# Altium footprint library Sensors_Schem_AP.PcbLib: 10 footprints
Each footprint in its own frame and in the unit in brackets; x right, y up, seen from the top. Pads: shape width x height; smd on the part's side, far side on the other; paste and mask are expansions set on the pad; w line width, h text height; cw(c..) or ccw(c..) is an arc to the next point about the centre after c.
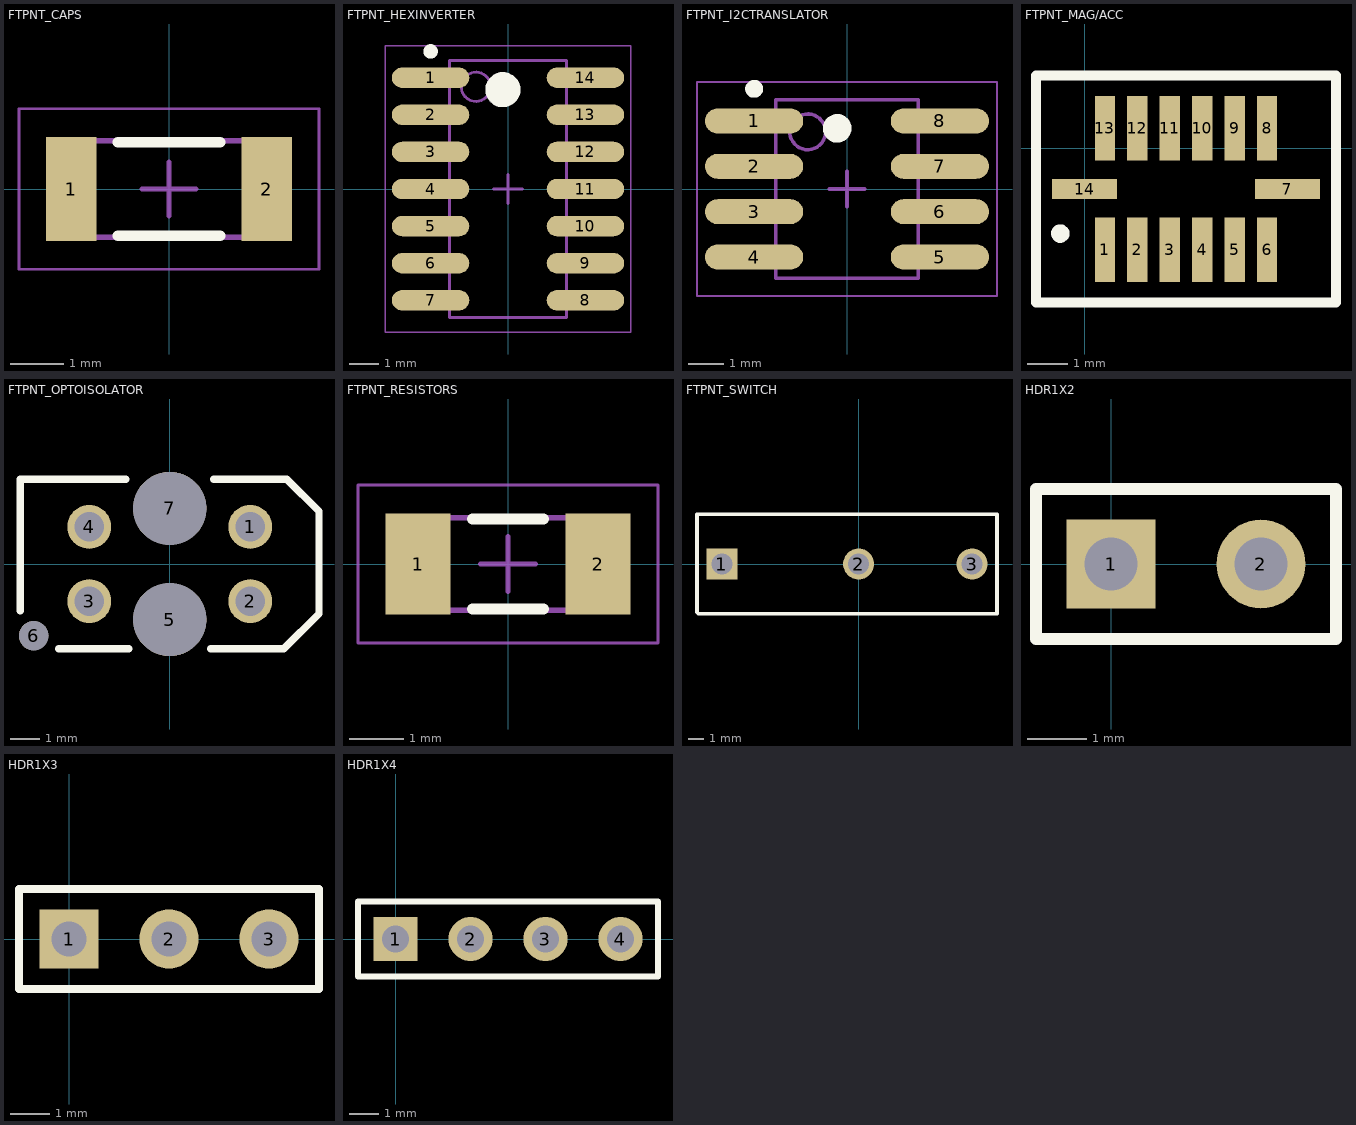
[diagram p0: the footprints below, top view; thin cyan lines are the x and y axes]

## FTPNT_CAPS [mm] "Chip Capacitor, 2-Leads, Body 3.20x1.60mm, IPC Low Density"
height 1.8
pads (2):
  rect 0.95x1.95 smd: 1(-1.825,0) 2(1.825,0)
Top Overlay:
  lines w0.2: -0.95,-0.875 0.95,-0.875 ; -0.95,0.875 0.95,0.875
Mechanical 13:
  lines w0.1: -1.7,-0.9 1.7,-0.9 1.7,0.9 -1.7,0.9 -1.7,-0.9
Mechanical 15:
  lines w0.05: -2.8,-1.5 2.8,-1.5 2.8,1.5 -2.8,1.5 -2.8,-1.5
  lines w0.1: -0.5,0 0.5,0 ; 0,-0.5 0,0.5
3D body: height 1.8, standoff 0, extent 1.5,-0.9 1.7,0.9
3D body: height 1.8, standoff 0, extent -1.7,-0.9 -1.5,0.9
3D body: height 1.8, standoff 0, extent -1.5,-0.9 1.5,0.9

## FTPNT_HEXINVERTER [mm] "SOP, 14-Leads, Body 8.63x3.90mm, Pitch 1.27mm, IPC Low Density"
height 1.75
pads (14):
  oval 2.65x0.7 smd: 1(-2.65,3.81) 2(-2.65,2.54) 3(-2.65,1.27) 4(-2.65,0) 5(-2.65,-1.27) 6(-2.65,-2.54) 7(-2.65,-3.81) 8(2.65,-3.81) 9(2.65,-2.54) 10(2.65,-1.27) 11(2.65,0) 12(2.65,1.27) 13(2.65,2.54) 14(2.65,3.81)
Top Overlay:
  circle w0.25: c-2.65,4.71 r0.125
  circle w0.6: c-0.175,3.4 r0.3
Mechanical 13:
  circle w0.1: c-1.1,3.5 r0.5
  lines w0.1: -2,-4.4 -2,4.4 2,4.4 2,-4.4 -2,-4.4
Mechanical 15:
  lines w0.05: -4.2,-4.9 -4.2,4.9 4.2,4.9 4.2,-4.9 -4.2,-4.9
  lines w0.1: -0.5,0 0.5,0 ; 0,-0.5 0,0.5
3D body: height 1.75, standoff 0.19, extent -2,-4.4 2,4.4

## FTPNT_I2CTRANSLATOR [mm] "TSOP, 8-Leads, Body 4.90x3.90mm, Pitch 1.27mm, IPC Low Density"
height 0.25
pads (8):
  oval 2.75x0.7 smd: 1(-2.6,1.905) 2(-2.6,0.635) 3(-2.6,-0.635) 4(-2.6,-1.905) 5(2.6,-1.905) 6(2.6,-0.635) 7(2.6,0.635) 8(2.6,1.905)
Top Overlay:
  circle w0.4: c-0.275,1.7 r0.2
  circle w0.25: c-2.6,2.805 r0.125
Mechanical 13:
  circle w0.1: c-1.1,1.6 r0.5
  lines w0.1: -2,-2.5 2,-2.5 2,2.5 -2,2.5 -2,-2.5
Mechanical 15:
  lines w0.05: -4.2,-3 4.2,-3 4.2,3 -4.2,3 -4.2,-3
  lines w0.1: -0.5,0 0.5,0 ; 0,-0.5 0,0.5
3D body: height 0.25, standoff 0.19, extent -2,-2.5 2,2.5

## FTPNT_MAG/ACC [mm]
pads (14):
  rect 0.5x1.6 smd: 1(0.5,-2.5) 2(1.3,-2.5) 3(2.1,-2.5) 4(2.9,-2.5) 5(3.7,-2.5) 6(4.5,-2.5) 8(4.5,0.5) 9(3.7,0.5) 10(2.9,0.5) 11(2.1,0.5) 12(1.3,0.5) 13(0.5,0.5)
  rect 1.6x0.5 smd: 7(5,-1) 14(0,-1)
Top Overlay:
  lines w0.254: -0.505,-2.132 cw(c-0.6,-2.1) -0.5,-2.1 ; -1.2,-3.8 -1.2,1.8 6.2,1.8 6.2,-3.8 -1.2,-3.8

## FTPNT_OPTOISOLATOR [mm]
pads (7):
  round 1.5 hole 1: 1(2.75,1.27) 2(2.75,-1.27) 3(-2.75,-1.27) 4(-2.75,1.27)
  round 2.5 hole 2.5 unplated: 5(0,-1.9) 7(0,1.9)
  round 1 hole 1 unplated: 6(-4.65,-2.45)
Top Overlay:
  lines w0.254: -5.1,-1.6 -5.1,2.9 -1.5,2.9 ; -3.8,-2.9 -1.4,-2.9 ; 1.4,-2.9 3.9,-2.9 5.1,-1.7 5.1,-1.2 5.1,0 5.1,1.2 ; 1.5,2.9 4,2.9 5.1,1.8 5.1,1.6 5.1,1.1

## FTPNT_RESISTORS [mm] "Chip Resistor, 2-Leads, Body 3.10x1.60mm, IPC Low Density"
height 0.7
pads (2):
  rect 1.2x1.85 smd: 1(-1.65,0) 2(1.65,0)
Top Overlay:
  lines w0.2: -0.65,-0.825 0.65,-0.825 ; -0.65,0.825 0.65,0.825
Mechanical 13:
  lines w0.1: -1.6,-0.85 1.6,-0.85 1.6,0.85 -1.6,0.85 -1.6,-0.85
Mechanical 15:
  lines w0.05: -2.75,-1.45 2.75,-1.45 2.75,1.45 -2.75,1.45 -2.75,-1.45
  lines w0.1: -0.5,0 0.5,0 ; 0,-0.5 0,0.5
3D body: height 0.7, standoff 0, extent 1.25,-0.85 1.6,0.85
3D body: height 0.7, standoff 0, extent -1.6,-0.85 -1.25,0.85
3D body: height 0.7, standoff 0, extent -1.25,-0.85 1.25,0.85

## FTPNT_SWITCH [mm]
pads (3):
  rect 2x2 hole 1.36: 1(-8.8,0)
  round 2 hole 1.36: 2(0,0) 3(7.3,0)
Top Overlay:
  lines w0.254: -10.4,-3.1 -10.4,0.2 -10.4,3.2 8.9,3.2 8.9,-3.2 -10.3,-3.2 -10.4,-3.1

## HDR1X2 [mm] "Connector; Header; 2 Position"
pads (2):
  rect 1.5x1.5 hole 0.9: 1(0,0)
  round 1.5 hole 0.9: 2(2.54,0)
Top Overlay:
  lines w0.2: -1.27,-1.27 -1.27,1.27 3.81,1.27 3.81,-1.27 -1.27,-1.27

## HDR1X3 [mm] "Connector; Header; 3 Position"
pads (3):
  rect 1.5x1.5 hole 0.9: 1(0,0)
  round 1.5 hole 0.9: 2(2.54,0) 3(5.08,0)
Top Overlay:
  lines w0.2: -1.27,-1.27 -1.27,1.27 6.35,1.27 6.35,-1.27 -1.27,-1.27

## HDR1X4 [mm] "Connector; Header; 4 Position"
pads (4):
  rect 1.5x1.5 hole 0.9: 1(0,0)
  round 1.5 hole 0.9: 2(2.54,0) 3(5.08,0) 4(7.62,0)
Top Overlay:
  lines w0.2: -1.27,-1.27 8.89,-1.27 8.89,1.27 -1.27,1.27 -1.27,-1.27